# EAGLE library part RASCAL_SHIELD (library Rascal)
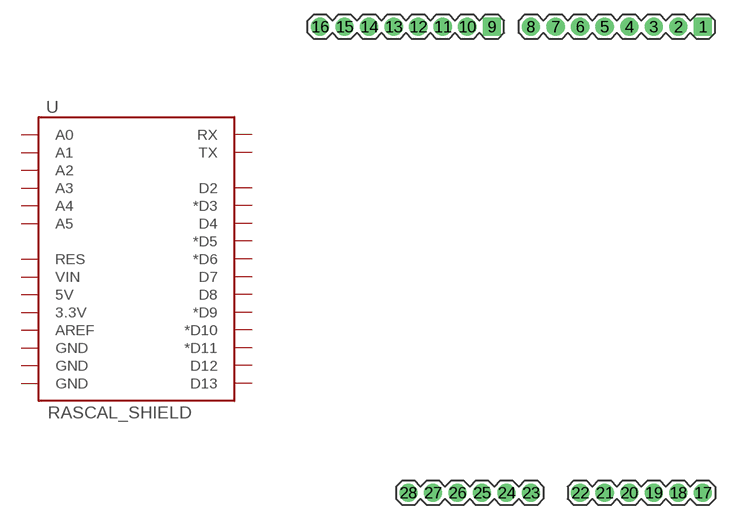
[diagram p2: symbol with the pads of RASCAL_SHIELD; footprint RASCAL_SHIELD]

Designator prefix -

## RASCAL_SHIELD  [RASCAL_SHIELD]
1  RX
2  TX
3  D2
4  *D3
5  D4
6  *D5
7  *D6
8  D7
9  D8
10  *D9
11  *D10
12  *D11
13  D12
14  D13
15  GND
16  AREF
17  A5
18  A4
19  A3
20  A2
21  A1
22  A0
23  VIN
24  GND
25  GND
26  5V
27  3.3V
28  RES

## Footprint RASCAL_SHIELD (pad centres in mm)
drill 1.016 pad 1.88 square: 1 -5.08,49.53; 9 -26.924,49.53
drill 1.016 pad 1.88 round: 2 -7.62,49.53; 3 -10.16,49.53; 4 -12.7,49.53; 5 -15.24,49.53; 6 -17.78,49.53; 7 -20.32,49.53; 8 -22.86,49.53; 10 -29.464,49.53; 11 -32.004,49.53; 12 -34.544,49.53; 13 -37.084,49.53; 14 -39.624,49.53; 15 -42.164,49.53; 16 -44.704,49.53; 17 -5.08,1.27; 18 -7.62,1.27; 19 -10.16,1.27; 20 -12.7,1.27; 21 -15.24,1.27; 22 -17.78,1.27; 23 -22.86,1.27; 24 -25.4,1.27; 25 -27.94,1.27; 26 -30.48,1.27; 27 -33.02,1.27; 28 -35.56,1.27